# EAGLE library part CONN_RJ45_X2_LEDS (library GPLIB_CONN)
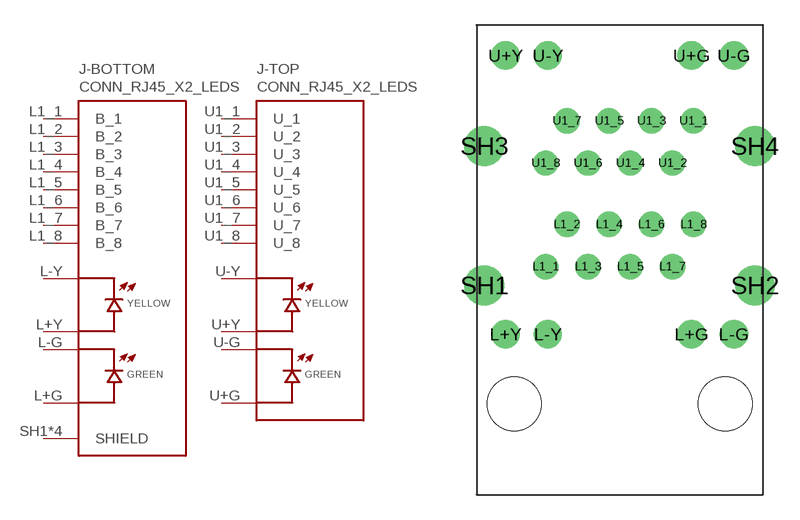
[diagram p65: symbol with the pads of CONN_RJ45_X2_HC-RJ45-059A-2*1-1; footprint CONN_RJ45_X2_HC-RJ45-059A-2*1-1]

Designator prefix J; gates -BOTTOM=CONN_ETH_LEDS_SH -TOP=CONN_ETH_LEDS

## CONN_RJ45_X2_LEDS_HC-RJ45-059A-2*1-1  [CONN_RJ45_X2_HC-RJ45-059A-2*1-1]
L1_1  -BOTTOM:B_1  pas
L1_2  -BOTTOM:B_2  pas
L1_3  -BOTTOM:B_3  pas
L1_4  -BOTTOM:B_4  pas
L1_5  -BOTTOM:B_5  pas
L1_6  -BOTTOM:B_6  pas
L1_7  -BOTTOM:B_7  pas
L1_8  -BOTTOM:B_8  pas
L+G  -BOTTOM:B_AG  pas
L+Y  -BOTTOM:B_AY  pas
L-G  -BOTTOM:B_CG  pas
L-Y  -BOTTOM:B_CY  pas
SH1  -BOTTOM:SHIELD  pas
SH2  -BOTTOM:SHIELD  pas
SH3  -BOTTOM:SHIELD  pas
SH4  -BOTTOM:SHIELD  pas
U1_1  -TOP:U_1  pas
U1_2  -TOP:U_2  pas
U1_3  -TOP:U_3  pas
U1_4  -TOP:U_4  pas
U1_5  -TOP:U_5  pas
U1_6  -TOP:U_6  pas
U1_7  -TOP:U_7  pas
U1_8  -TOP:U_8  pas
U+G  -TOP:U_AG  pas
U+Y  -TOP:U_AY  pas
U-G  -TOP:U_CG  pas
U-Y  -TOP:U_CY  pas

## Footprint CONN_RJ45_X2_HC-RJ45-059A-2*1-1 (pad centres in mm)
drill 0.914 pad 1.524: L1_1 -4.445,-4.32; L1_2 -3.175,-1.78; L1_3 -1.905,-4.32; L1_4 -0.635,-1.78; L1_5 0.635,-4.32; L1_6 1.905,-1.78; L1_7 3.175,-4.32; L1_8 4.445,-1.78; U1_1 4.445,4.45; U1_2 3.175,1.91; U1_3 1.905,4.45; U1_4 0.635,1.91; U1_5 -0.635,4.45; U1_6 -1.905,1.91; U1_7 -3.175,4.45; U1_8 -4.445,1.91
drill 1.05 pad 1.7: L+G 4.32,-8.38; L+Y -6.86,-8.38; L-G 6.86,-8.38; L-Y -4.32,-8.38; U+G 4.32,8.38; U+Y -6.86,8.38; U-G 6.86,8.38; U-Y -4.32,8.38
drill 1.6 pad 2.2: SH1 -8.13,-5.46; SH2 8.13,-5.46; SH3 -8.13,2.92; SH4 8.13,2.92
hole 3.25 at -6.35,-12.57
hole 3.25 at 6.35,-12.57